# EAGLE library part AMC1100* (library _hhn_AMC1100_ISO7240_ADS130)
AMC1100 Texas Instruments Fully-Differential Isolation Amplifier for Energy Metering Package: DIP-08 Gullwing (TI-postfix "DUB") Author: Dipl.-Ing. FH Rainer Bayer Hochschule Heilbronn: http://www.hochschule-heilbronn.de/rainer.bayer <http://www.hs-heilbronn.de/rainer.bayer> – rainer.bayer@hs-heilbronn.de Ingenieurbüro ing-rb: http://www.ing-rb.de/ – eagle@ing-rb.de Dozent dozent-rb: http://www.dozent-rb.de/ – eagle@dozent-rb.de
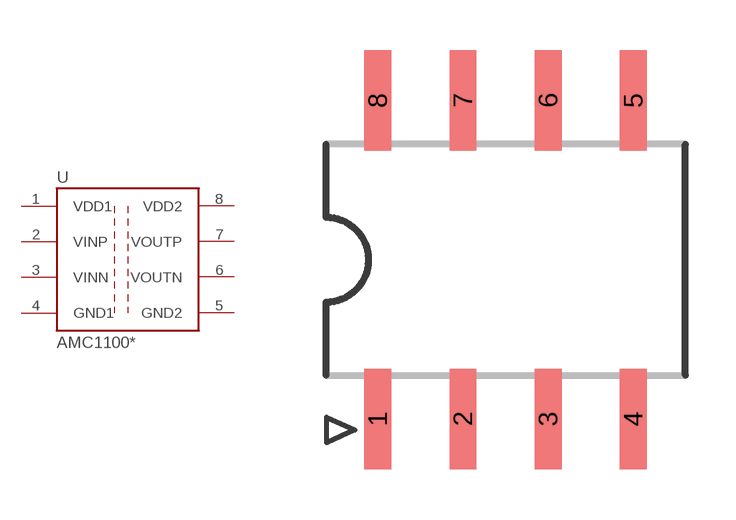
[diagram p0: symbol with the pads of DIP8-GULLWING; footprint DIP8-GULLWING]

Designator prefix U

## AMC1100DUB  [DIP8-GULLWING]
1  VDD1  pwr
2  VINP  in
3  VINN  in
4  GND1  pwr
5  GND2  pwr
6  VOUTN  out
7  VOUTP  out
8  VDD2  pwr

## Footprint DIP8-GULLWING (pad centres in mm)
SMD DIL08 acc. to TI-specs/-recommendations; TI postfix DUB (R-PDSO-G8)
smd 0.8 x 3: 1 -3.81,-4.753; 2 -1.27,-4.753; 3 1.27,-4.753; 4 3.81,-4.753; 5 3.81,4.753; 6 1.27,4.753; 7 -1.27,4.753; 8 -3.81,4.753